# Altium schematic symbol library AT42QT1040-MMHR.SchLib: 1 symbol
Pins are listed as number, name and electrical type; pins without a type are passive.

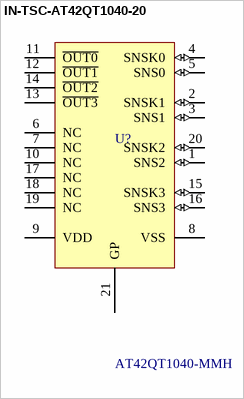
[diagram p0: symbol IN-TSC-AT42QT1040-20]

## IN-TSC-AT42QT1040-20
designator U?, comment AT42QT1040-MMH
QTouch 4-key Sensor IC, -40° to +85° C, 20-Pin VQFN; PartNumber: AT42QT1040-MMHR; Manufacturer: Microchip Technology; PartDescription: IC TOUCH SENSOR 4KEY 20-VQFN; DatasheetVersion: revB, Apr-2009; PackageVersion: revB, Oct-2008; ComponentLink2URL: http://www.atmel.com/Images/doc9524.pdf; ComponentLink2Description: Datasheet; PackageDescription: 20-pad, 3x3x0.85mm Body, Pitch 0.45mm, 1.55x1.55mm Exposed Pad, Plastic Very Thin QFN Package (VQFN); RevisionNote: Component Description updated. Datasheet URL updated. Changed pin layout.; PackageReference: 20M2; ComponentLink1URL: http://www.atmel.com/; ComponentLink1Description: Manufacturer URL; Supplier 1: Digi-Key; Supplier Part Number 1: AT42QT1040-MMHCT-ND; Package Type: 20-VQFN
footprint 20M2_M (QFN, 20-Leads, Body 3x3mm, Pitch 0.45mm, Thermal Pad 1.7x1.7mm, IPC Low Density)
pins: 1 SNS2 (io), 2 SNSK1 (io), 3 SNS1 (io), 4 SNSK0 (io), 5 SNS0 (io), 6 NC, 7 NC, 8 VSS (power), 9 VDD (power), 10 NC, 11 ~{OUT0} (oc), 12 ~{OUT1} (oc), 13 ~{OUT3} (oc), 14 ~{OUT2} (oc), 15 SNSK3 (io), 16 SNS3 (io), 17 NC, 18 NC, 19 NC, 20 SNSK2 (io), 21 GP